# Altium schematic symbol library U_STC3100.SchLib: 1 symbol
Pins are listed as number, name and electrical type; pins without a type are passive.

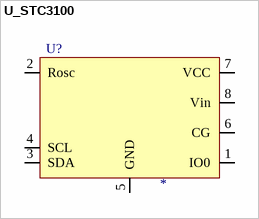
[diagram p0: symbol U_STC3100]

## U_STC3100
designator U?
pins: 1 IO0, 2 Rosc, 3 SDA, 4 SCL, 5 GND, 6 CG, 7 VCC, 8 Vin